# Altium schematic symbol library Schlib1.SchLib: 14 symbols
Pins are listed as number, name and electrical type; pins without a type are passive.

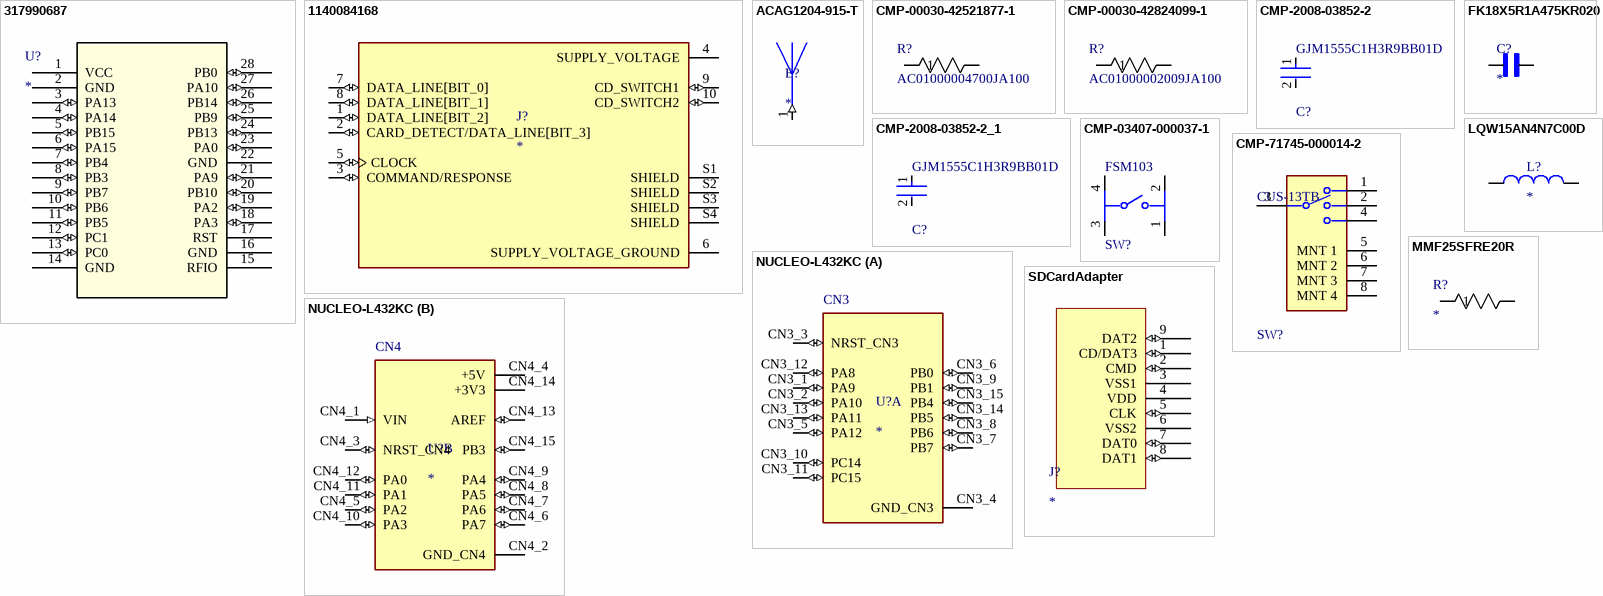
[diagram p0: symbols 317990687 to SDCardAdapter]

## 317990687
designator U?
No Description Available; Mfr_Name: BeagleBoard; RefDes: RefDes; Type: Type
footprint QFN_90687_SEE-M
pins: 1 VCC (power), 2 GND (power), 3 PA13 (io), 4 PA14 (io), 5 PB15 (io), 6 PA15 (io), 7 PB4 (io), 8 PB3 (io), 9 PB7 (io), 10 PB6 (io), 11 PB5 (io), 12 PC1 (io), 13 PC0 (io), 14 GND (power), 15 RFIO, 16 GND (power), 17 RST, 18 PA3 (io), 19 PA2 (io), 20 PB10 (io), 21 PA9 (io), 22 GND (power), 23 PA0 (io), 24 PB13 (io), 25 PB9 (io), 26 PB14 (io), 27 PA10 (io), 28 PB0 (io)

## 1140084168
designator J?
10 (8 + 2) Position Card Connector Secure Digital - microSDâ„¢ Surface Mount, Right Angle Gold; MP: 1140084168; MF: Amphenol ICC; Check_prices: https://www.snapeda.com/parts/1140084168/Amphenol+FCI/view-part/?ref=eda; Value: *; Availability: In Stock; Price: None; Package: None; SnapEDA_Link: https://www.snapeda.com/parts/1140084168/Amphenol+FCI/view-part/?ref=snap; Purchase-URL: https://pricing.snapeda.com/search/part/1140084168/?ref=eda
footprint AMPHENOL_1140084168
pins: 1 DATA_LINE[BIT_2] (io), 2 CARD_DETECT/DATA_LINE[BIT_3] (io), 3 COMMAND/RESPONSE (io), 4 SUPPLY_VOLTAGE (power), 5 CLOCK (io), 6 SUPPLY_VOLTAGE_GROUND (power), 7 DATA_LINE[BIT_0] (io), 8 DATA_LINE[BIT_1] (io), 9 CD_SWITCH1 (io), 10 CD_SWITCH2 (io), S1 SHIELD, S2 SHIELD, S3 SHIELD, S4 SHIELD

## ACAG1204-915-T
designator E?
915MHz ISM, LoRa, Sigfox Chip RF Antenna 910MHz ~ 925MHz 3.42dBi Solder Surface Mount; MF: Abracon LLC; MP: ACAG1204-915-T; Check_prices: https://www.snapeda.com/parts/ACAG1204-915-T/Abracon+LLC/view-part/?ref=eda; Purchase-URL: https://pricing.snapeda.com/search/part/ACAG1204-915-T/?ref=eda; Value: *; Availability: In Stock; Package: None; SnapEDA_Link: https://www.snapeda.com/parts/ACAG1204-915-T/Abracon+LLC/view-part/?ref=snap; Price: None
footprint XDCR_ACAG1204-915-T
pins: 1 (in)

## CMP-00030-42521877-1
designator R?, comment AC01000004700JA100
AC01000004700JA100 VISHAY AC01000004700JA100 Through Hole Resistor, 470 ohm, Axial Leaded, 1 W, 5%, AC Series; NexarPartId: 42521877; Temperature Coefficient: 180ppm/°C; Voltage Rating (DC): 22V; Max Power Dissipation: 1W; Resistance: 470Ω; Lead Diameter: 800µm; Max Operating Temperature: 200°C; Number of Pins: 2; Weight: 519.986953mg; Contact Plating: Tin; Radiation Hardening: No; Number of Terminations: 2; Military Standard: Not; REACH SVHC: Unknown; Packaging: Cut Tape (CT); Tolerance: 5%; Composition: Wirewound; Case/Package: Conformal; Termination: Axial; Power Rating: 1W; RoHS: Compliant; Length: 11mm; Min Operating Temperature: 0°C; Diameter: 4.3mm
pcb RES_AC01_VIS
footprint RES_AC01_VIS
pins: 1, 2

## CMP-00030-42824099-1
designator R?, comment AC01000002009JA100
AC01000002009JA100 Res Wirewound 20 Ohm 5% 1W -80ppm/°C to -10ppm/°C Conformal AXL Thru-Hole Ammo Pack; NexarPartId: 42824099; Voltage Rating (DC): 4V; Resistance: 20Ω; Lead Diameter: 800µm; Length: 11mm; Military Standard: Not; Voltage Rating: 4V; REACH SVHC: Unknown; Termination: Axial; Radiation Hardening: No; Tolerance: 5%; Diameter: 4.3mm; Power Rating: 1W; RoHS: Compliant; Max Power Dissipation: 1W; Number of Terminations: 2; Features: Flame Retardant Coating; Max Operating Temperature: 275°C; Mount: Through Hole; Packaging: Tape & Box (TB); Composition: Wirewound; Min Operating Temperature: -40°C; Temperature Coefficient: -80ppm/°C; Contact Plating: Tin; Case/Package: Axial; Number of Pins: 2
pcb RES_AC01_VIS
footprint RES_AC01_VIS
pins: 1, 2

## CMP-2008-03852-2
designator C?, comment GJM1555C1H3R9BB01D
Multi-Layer Ceramic Capacitor 3.9pF C0G  ±0.1pF 0402 Paper T/R; Voltage Rating: 50V; Max Operating Temperature: 125°C; Case Code (Imperial): 0402; Packaging: Tape and Reel; Package Quantity: 10000; Voltage Rating (DC): 50V; Thickness: 0.022inch; Case/Package: 0402; Lead Pitch: 0.3mm; Min Operating Temperature: -55°C; Capacitance: 3.9pF; Case Code (Metric): 1005; Width: 0.02inch; Termination: SMD/SMT; Length: 1mm; Mount: Surface Mount; Height: 0.5mm; Depth: 0.5mm; Dielectric: C0G; REACH SVHC: No SVHC; Number of Pins: 2; Radiation Hardening: No
footprint FP-GJM155-0_05-IPC_C
footprint FP-GJM155-0_05-IPC_A
footprint FP-GJM155-0_05-IPC_B
footprint FP-GJM155-0_05-MFG
pins: 1, 2

## CMP-2008-03852-2_1
designator C?, comment GJM1555C1H3R9BB01D
Multi-Layer Ceramic Capacitor 3.9pF C0G  ±0.1pF 0402 Paper T/R; Voltage Rating: 50V; Max Operating Temperature: 125°C; Case Code (Imperial): 0402; Packaging: Tape and Reel; Package Quantity: 10000; Voltage Rating (DC): 50V; Thickness: 0.022inch; Case/Package: 0402; Lead Pitch: 0.3mm; Min Operating Temperature: -55°C; Capacitance: 3.9pF; Case Code (Metric): 1005; Width: 0.02inch; Termination: SMD/SMT; Length: 1mm; Mount: Surface Mount; Height: 0.5mm; Depth: 0.5mm; Dielectric: C0G; REACH SVHC: No SVHC; Number of Pins: 2; Radiation Hardening: No
footprint FP-GJM155-0_05-IPC_C
footprint FP-GJM155-0_05-IPC_A
footprint FP-GJM155-0_05-IPC_B
footprint FP-GJM155-0_05-MFG
pins: 1, 2

## CMP-03407-000037-1
designator SW?, comment FSM103
SWITCH TACTILE SPST-NO 0.05A 24V; Contact Resistance: 100mR; Actuator Length: 3.4mm; Switch Function: Off-Mom; Operating Force: 1.57N; Illumination Type: Non-Illuminated; Voltage Rating (DC): 12V; Current Rating: 50mA; Actuator Material: Polyester; Switch Travel: 0.3mm; Throw Configuration: SPST; Actuator Color: Black; Mechanical Life: 100000Cycles; Depth: 14.1mm; RoHS Compliant: Yes; Max Operating Temperature: 85°C; Mount: Through Hole; Min Operating Temperature: -35°C; Contact Plating: Silver; Width: 12mm; Package Quantity: 400; Radiation Hardening: No; Series: FSM100 ~ 104; Type: Switch; Termination: PC Pins; Voltage Rating: 24V; Contact Material: Brass; Max Voltage Rating (DC): 12V; Contact Current Rating: 50mA; Length: 12mm; Packaging: Loose Piece; Orientation: Straight; Max Current Rating: 50mA; Electrical Life: 100000Cycles
footprint FP-FSM103-MFG
pins: 1, 2, 3, 4

## CMP-71745-000014-2
designator SW?, comment CUS-13TB
SWITCH SLIDE SP3T 300MA 4V; NexarPartId: 85266946; Contact Current Rating: 100mA; Contact Style: Non-Shorting; Life (Cycles): 10kcycles; Max Voltage Rating (DC): 20V; Number of Positions: 3; Contact Resistance: 70mΩ; Switch Function: On-On-On; Actuator Material: Nylon, Polyamide; Switch Travel: 1.5mm; Operating Force: 1.7N; Voltage Rating (DC): 4V; Throw Configuration: SP3T; Height: 1.6mm; Electrical Life: 10kcycles; Min Operating Temperature: -20°C; RoHS: Compliant; Mount: Surface Mount; Radiation Hardening: No; Contact Plating: Gold; Termination: Gull Wing; Orientation: Right Angle; Current Rating: 300mA; Actuator Length: 1.5mm; Max Operating Temperature: 70°C; Packaging: Tape & Reel (TR)
footprint FP-CUS-13TB-MFG
pins: 1, 2, 3 C, 4, 5 MNT 1, 6 MNT 2, 7 MNT 3, 8 MNT 4

## FK18X5R1A475KR020
designator C?
MF: {'manufacturer': u'TDK Corporation'}; MP: FK18X5R1A475KR020; Package: None; Price: None; Value: *; Availability: Unavailable
footprint CAPRB250W50L400T250H550
pins: 1, 2

## LQW15AN4N7C00D
designator L?
INDUCTOR, 0402, 4.7NH; Inductor Type:Chip Coils; Inductance Tolerance:Â± 0.2nH; Resistance:0.07ohm; DC Current Max:750mA; Case Style:0402; Q Factor @ Vr, F:25; Core Material:Alumina; External Depth:0.6mm; External Length / ;RoHS Compliant: Yes; MP: LQW15AN4N7C00D; Package: None; Price: None; Value: *; Availability: Unavailable
footprint INDC1006X60N
pins: 1, 2

## MMF25SFRE20R
designator R?
No Description Available; Mfr_Name: Yageo
footprint RES_MMF25S_3P5X1P4_YAG
pins: 1, 2

## NUCLEO-L432KC
designator U?
STM32L432KC, mbed-Enabled Development Nucleo-32 STM32L4 ARMÂ® CortexÂ®-M4 MCU 32-Bit Embedded Evaluation Board; MF: STMicroelectronics; MP: NUCLEO-L432KC; SnapEDA_Link: https://www.snapeda.com/parts/NUCLEO-L432KC/STMicroelectronics/view-part/?ref=snap; Package: None; Value: *; Check_prices: https://www.snapeda.com/parts/NUCLEO-L432KC/STMicroelectronics/view-part/?ref=eda
footprint MODULE_NUCLEO-L432KC
part A pins: CN3_1 PA9 (io), CN3_2 PA10 (io), CN3_3 NRST_CN3 (io), CN3_4 GND_CN3 (power), CN3_5 PA12 (io), CN3_6 PB0 (io), CN3_7 PB7 (io), CN3_8 PB6 (io), CN3_9 PB1 (io), CN3_10 PC14 (io), CN3_11 PC15 (io), CN3_12 PA8 (io), CN3_13 PA11 (io), CN3_14 PB5 (io), CN3_15 PB4 (io)
part B pins: CN4_1 VIN (in), CN4_2 GND_CN4 (power), CN4_3 NRST_CN4 (io), CN4_4 +5V (power), CN4_5 PA2 (io), CN4_6 PA7 (io), CN4_7 PA6 (io), CN4_8 PA5 (io), CN4_9 PA4 (io), CN4_10 PA3 (io), CN4_11 PA1 (io), CN4_12 PA0 (io), CN4_13 AREF (io), CN4_14 +3V3 (power), CN4_15 PB3 (io)
part A text: CN3
part B text: CN4

## SDCardAdapter
designator J?
SD card adapter
footprint SD Card Adapter
pins: 1 CD/DAT3 (io), 2 CMD (io), 3 VSS1 (power), 4 VDD (power), 5 CLK (io), 6 VSS2 (power), 7 DAT0 (io), 8 DAT1 (io), 9 DAT2 (io)